# EAGLE library part TSW-103-02-S-Q (library con-samtec)
THROUGH-HOLE .025" SQ POST HEADER Source: Samtec TSW.pdf
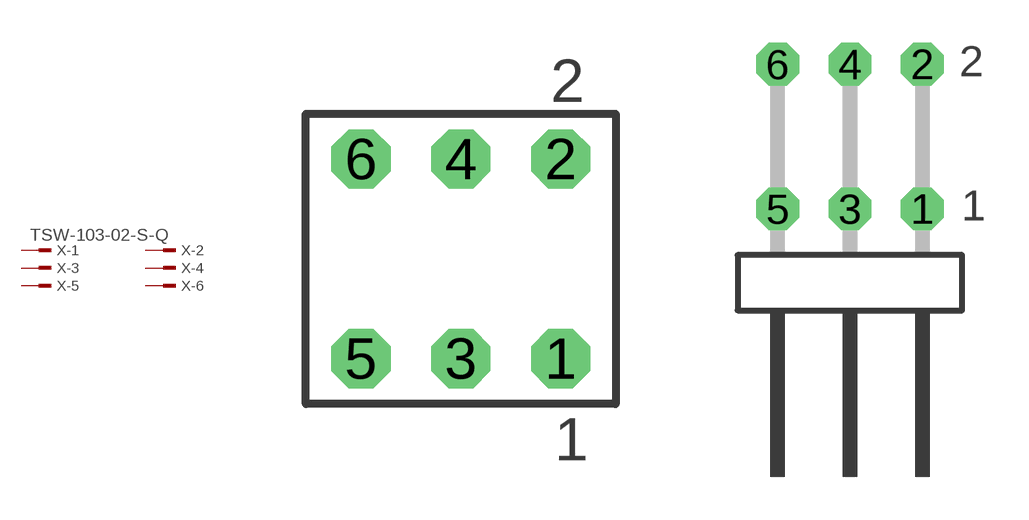
[diagram p287: symbol with the pads of TSW-103-02-S-Q; footprints TSW-103-02-S-Q, TSW-103-02-S-Q-RA]

Designator prefix X; gates -1=MPINV -2=MPIN -3=MPIN -4=MPIN -5=MPIN -6=MPIN

## TSW-103-02-S-Q  [TSW-103-02-S-Q]
1  -1:1  pas
2  -2:1  pas
3  -3:1  pas
4  -4:1  pas
5  -5:1  pas
6  -6:1  pas

## TSW-103-02-S-Q-RA  [TSW-103-02-S-Q-RA]
Pads as for TSW-103-02-S-Q

## Footprint TSW-103-02-S-Q (pad centres in mm)
THROUGH-HOLE .025" SQ POST HEADER Source: Samtec TSW.pdf
drill 1 pad 1.5 octagon: 1 2.54,-2.54; 2 2.54,2.54; 3 0,-2.54; 4 0,2.54; 5 -2.54,-2.54; 6 -2.54,2.54

## Footprint TSW-103-02-S-Q-RA (pad centres in mm)
THROUGH-HOLE .025" SQ POST HEADER Source: Samtec TSW.pdf
drill 1 pad 1.5 octagon: 1 2.54,1.524; 2 2.54,6.604; 3 0,1.524; 4 0,6.604; 5 -2.54,1.524; 6 -2.54,6.604